# Altium integrated library flying_pcb_v1.2.IntLib: 22 symbols
Pins are listed as number, name and electrical type; pins without a type are passive.

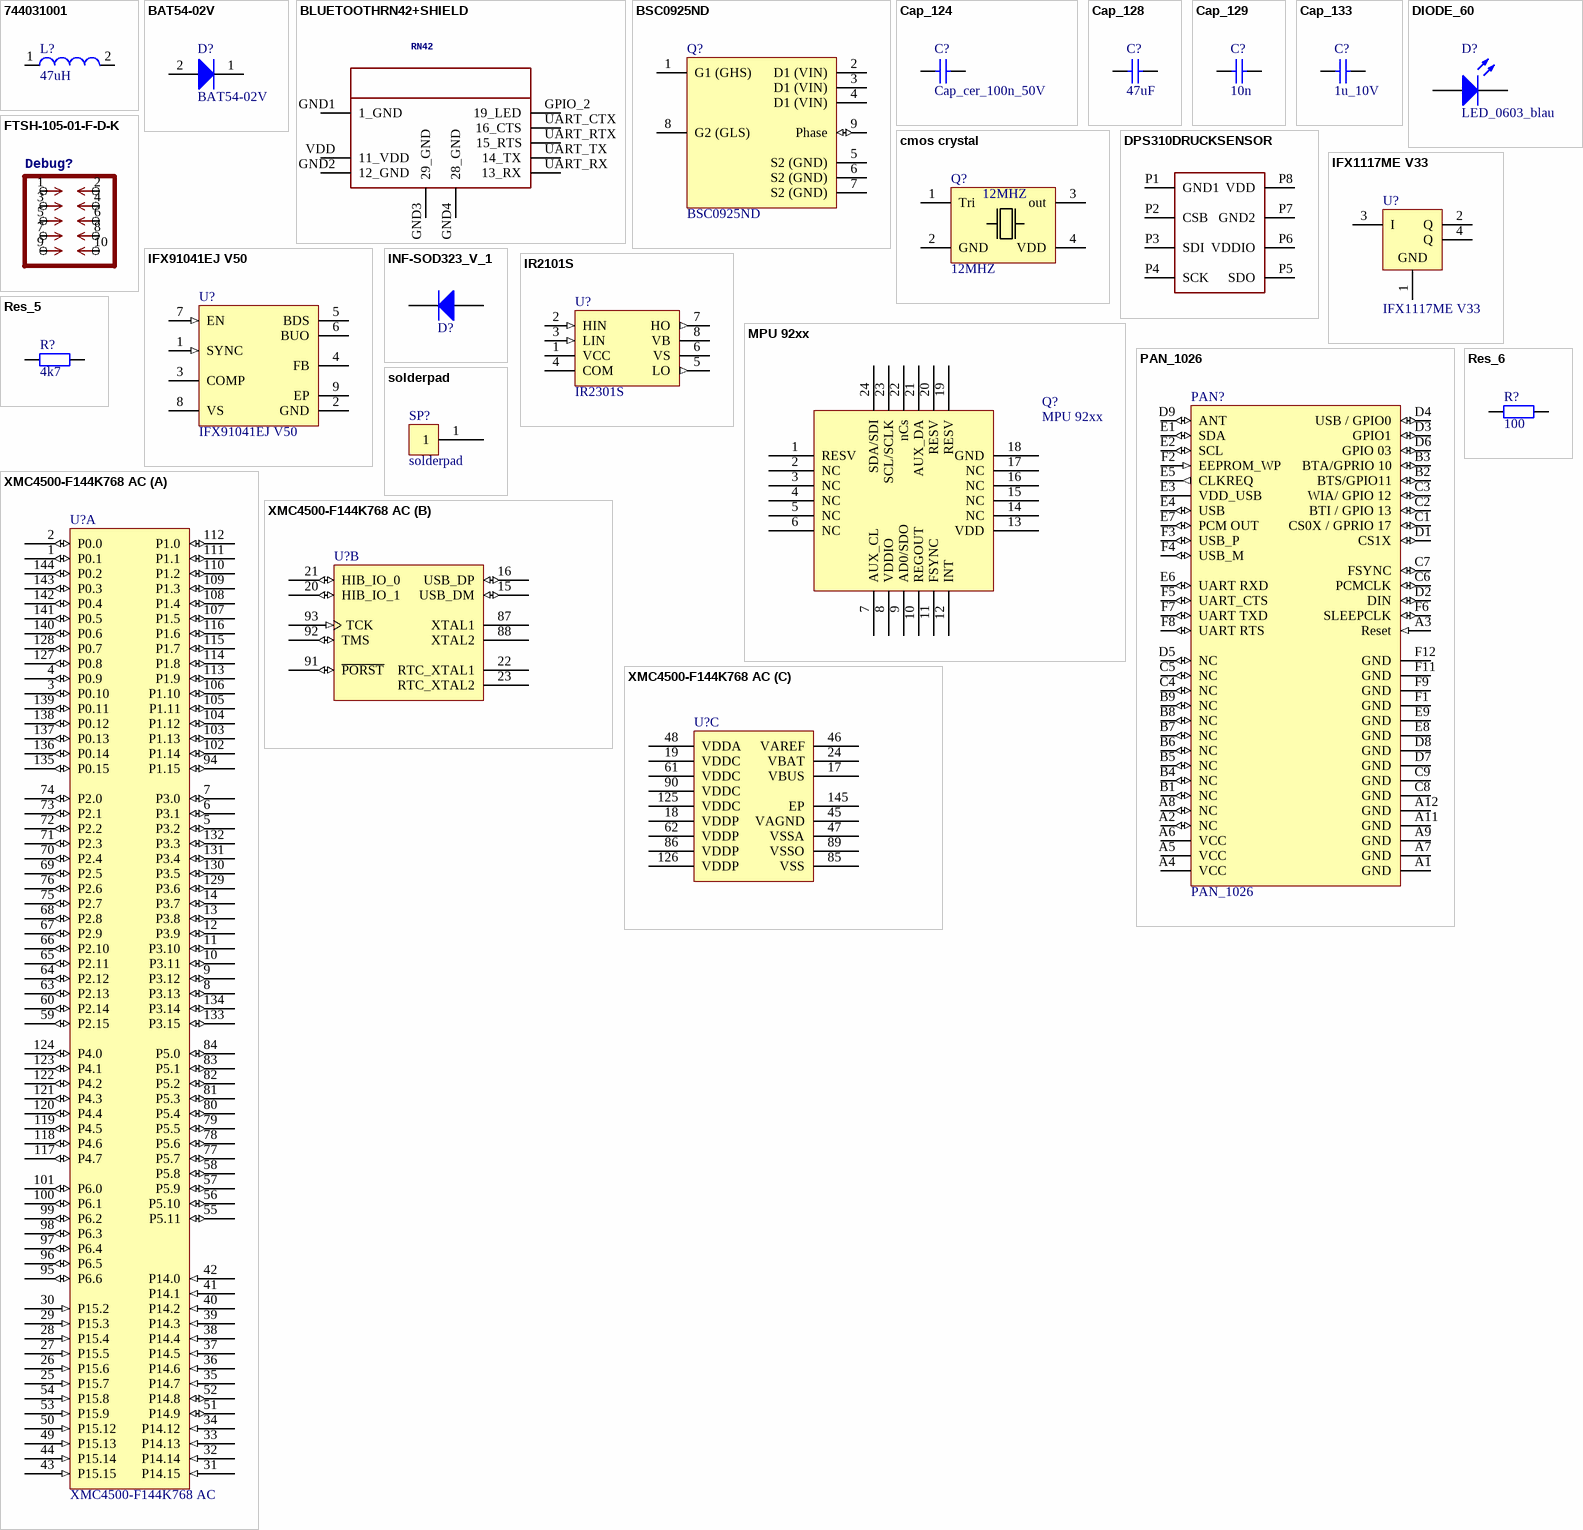
[diagram p0: symbols 744031001 to XMC4500-F144K768 AC]

## 744031001
designator L?, comment 47uH
SMD Shielded Tiny Power Inductor WE-TPC, L = 1.50 µH; PartNumber: 744031001; Inductance: 1.50 µH; DatasheetVersion: ver 6, Jan-2009; PackageReference: WE-TPC-3816-S; PackageDescription: SMD Inductor, 2-Leads, Body 3.8 x 3.8 mm; ComponentLink1Description: Manufacturer URL; ComponentLink1URL: http://www.we-online.com; ComponentLink2Description: Datasheet; ComponentLink2URL: http://www.we-online.de/katalog/media/pdf/744031001.pdf
footprint WE-TPC-3816-S (SMD Inductor, 2-Leads, Body 3.8x3.8x1.8 mm)
pins: 1, 2

## BAT54-02V
designator D?
Silicon Schottky Diode, SC79, Reel, Green; Manufacturer: Infineon; Green: TRUE; PackageReference: SC79; PackageDescription: 2-Pin Semiconductor Package, 0.8 x 1.2 mm Body; Supplier 1: Mouser; Supplier Part Number 1: N/A; Halogen-free: FALSE; Mounting Technology: Surface Mount; PartNumber: BAT54-02V; ComponentLink1Description: Manufacturer URL; ComponentLink1URL: http://www.infineon.com/; ComponentLink2Description: Datasheet; ComponentLink2URL: http://www.infineon.com/dgdl/bat54series.pdf?folderId=db3a30431400ef68011425f1ca2505e3&fileId=db3a304314dca3890115190b74210ea6; ComponentLink3Description: Package Specification; ComponentLink3URL: http://www.infineon.com/dgdl/SC79-Package_Overview.pdf?folderId=db3a30431936bc4b011951fbddb03b15&fileId=db3a30431936bc4b01195226fe583b41
footprint INF-SC79_V (SC79, 2-Leads, Body 1.2x0.8 mm)
pins: 1 K, 2 A

## BLUETOOTHRN42+SHIELD
designator RN?, comment >NAME: RN42  (hidden comment: n.m.)
footprint RN42+SHIELD
pins: GND1 1_GND, GND2 12_GND, GND3 29_GND, GND4 28_GND, GPIO_2 19_LED, UART_CTX 16_CTS, UART_RTX 15_RTS, UART_RX 13_RX, UART_TX 14_TX, VDD 11_VDD

## BSC0925ND
designator Q?
N-Channel OptiMOS Power-MOSFET, 30 V VDS, 40 A ID, -55 to 150 degC, PG-TISON-8, Reel, Green; Manufacturer: Infineon; Green: TRUE; ID (max): 40 A; IDpuls (max): 160 A; Polarity: N; Ptot (max): 30 W; QG: 6.7 nC; RDS (on) (max): 5 mOhm; RDS (on) (max) (@4.5V): 7 mOhm; Rth: 4.2 K/W; RthJA (max): 125 K/W; VDS (max): 30 V; VGS(th) (max): 2 V; VGS(th) (min): 1.2 V; DatasheetVersion: Rev. 1.0; PackageVersion: Rev. 01, 09/2011; PackageReference: PG-TISON-8; PackageDescription: 8-Pin Plastic (Green) Small Outline Non-Leaded Package, 5 x 6 mm Body, 1.27 mm Pitch; Halogen-free: TRUE; Packing: Reel; RthJC (max): 4.2 K/W; Mounting Technology: Surface Mount; PartNumber: BSC0925ND; ComponentLink1Description: Manufacturer URL; ComponentLink1URL: http://www.infineon.com/; ComponentLink2Description: Datasheet; ComponentLink2URL: http://www.infineon.com/dgdl/BSC0925ND_rev1+0.pdf?folderId=db3a304313b8b5a60113cee8763b02d7&fileId=db3a304336ca04c90136cec562a24914; ComponentLink3Description: Package Specification; ComponentLink3URL: http://www.infineon.com/dgdl/BSC0910NDI_Rev. 0.5.pdf?folderId=db3a304313b8b5a60113cee8763b02d7&fileId=db3a304336ca04c90136cedc08b64926
footprint INF-PG-TISON-8_V (TISON, 8-Leads, Body 6x5mm, Pitch 1.27mm, Thermal Pad 4x2.15mm)
pins: 1 G1 (GHS), 2 D1 (VIN), 3 D1 (VIN), 4 D1 (VIN), 5 S2 (GND), 6 S2 (GND), 7 S2 (GND), 8 G2 (GLS), 9 Phase (io)

## Cap_124
designator C?, comment Cap_cer_100n_50V
QR: 0; Capacity: 100n; Voltage: 50V; RS Bestellnummer: 788-2985; UID: Cap_124; Name: Cap_cer_100n_50V; ComponentLink1URL: #NAME?; mounting: SMD0603
footprint _0805
footprint 1608[0603] (Chip Capacitor, Body 1.6x0.8mm, IPC High Density)
pins: 1, 2

## Cap_128
designator C?, comment 47uF
Name: Cap_0805; QR: 0; UID: Cap_128; ComponentLink1URL: #NAME?; mounting: SMD
footprint _0805
pins: 1, 2

## Cap_129
designator C?, comment 10n
Name: Cap_0603; QR: 0; UID: Cap_129; ComponentLink1URL: #NAME?; mounting: SMD
footprint _0603
pins: 1, 2

## Cap_133
designator C?, comment 1u_10V
RS_number: 788-2884; QR: 0; Capacity: 1u; Voltage: 10V; UID: Cap_133; Name: 1u_10V; Name_Hyperlink: http://at.rs-online.com/web/p/keramik-multilayer-kondensatoren/7882884; ComponentLink1URL: #NAME?; mounting: SMD
footprint _0805
footprint 0603 (Chip Inductor, Body 0.6x0.3mm, IPC High Density)
footprint 1608[0603] (Chip Capacitor, Body 1.6x0.8mm, IPC High Density)
pins: 1, 2

## cmos crystal
designator Q?, comment 12MHZ
cmos smd crystal 3,3V; RS Bestellnummer: 703-2344; Spannung: 3.3V; Frequenz: 12MHZ; Typ: SMD
footprint cmos crystal (cmos smd crystal 3,3V)
pins: 1 Tri, 2 GND, 3 out, 4 VDD

## DIODE_60
designator D?, comment LED_0603_blau
Type: LED; Colour: blau; RS_number: 697-3610P; QR: 0; UID: DIODE_60; Name: LED_0603_blau; Name_Hyperlink: http://at.rs-online.com/web/p/products/6973610P/; ComponentLink1URL: #WERT!; mounting: SMD
footprint LED_0603
pins: 1, 2

## DPS310DRUCKSENSOR
designator DPS?, comment Infineon  (value not drawn)
footprint LGA8R125P0X4_500X300X120
pins: P1 GND1, P2 CSB, P3 SDI, P4 SCK, P5 SDO, P6 VDDIO, P7 GND2, P8 VDD

## FTSH-105-01-F-D-K
designator Debug?  (value not drawn)
footprint FTSH-105-01-F-D-K
pins: 1, 2, 3, 4, 5, 6, 7, 8, 9, 10

## IFX1117ME V33
designator U?
Voltage Regulator, 4.55 to 15 V Operating, 1000 mA, -40 to 125 degC, PG-SOT223 (SC-73), Reel, Green; Manufacturer: Infineon; Accuracy: 2.0 %; Automotive Qualified: FALSE; Dropout Voltage: 1200 mV; Green: TRUE; Max Number Reflow: 3; Max Peak Reflow Temp: 260 degC; Max. Output Current: 1000 mA; Output Voltage: 3.3 V; Regulator Type: Linear->single output; Typical Quiescent Current: 5000 uA; DatasheetVersion: Rev. 1.0; PackageVersion: Apr-08; PackageReference: PG-SOT223 (SC-73); PackageDescription: 4-Pin Small Outline Transistor Package, 6.5 x 3.5 mm Body, 2.3 mm Pitch; Supplier 1: Mouser; Supplier Part Number 1: 726-IFX1117MEV33; Supplier 2: Digi-Key; Supplier Part Number 2: IFX1117ME V33TR-ND; Supplier 3: Digi-Key; Supplier Part Number 3: IFX1117ME V33CT-ND; Supplier 4: Digi-Key; Supplier Part Number 4: IFX1117ME V33DKR-ND; MSL: 1; Packing: Reel; Reset: FALSE; Status Output: FALSE; Mounting Technology: Surface Mount; PartNumber: IFX1117ME V33; ComponentLink1Description: Manufacturer URL; ComponentLink1URL: http://www.infineon.com/; ComponentLink2Description: Datasheet; ComponentLink2URL: http://www.infineon.com/dgdl/IFX1117ME+V33.pdf?folderId=db3a304318f3fe290118f5a433570040&fileId=db3a30432e779412012e9097d1611987; ComponentLink3Description: Package Specification; ComponentLink3URL: http://www.infineon.com/dgdl/SOT223-Package_Overview.pdf?folderId=db3a30431936bc4b0119530470b03c3d&fileId=db3a30431936bc4b0119531d40b93c5c
footprint INF-PG-SOT223_SC-73_N (SOT223, 4-Leads, Body 6.5x3.5mm, Pitch 2.3mm, IPC Medium Density)
footprint INF-PG-SOT223_SC-73_L (SOT223, 4-Leads, Body 6.5x3.5mm, Pitch 2.3mm, IPC High Density)
footprint INF-PG-SOT223_SC-73_M (SOT223, 4-Leads, Body 6.5x3.5mm, Pitch 2.3mm, IPC Low Density)
pins: 1 GND (power), 2 Q (power) "Output", 3 I (power) "Input", 4 Q (power) "Output"

## IFX91041EJ V50
designator U?
1.8 A DC/DC Step-Down Voltage Regulator, -40 to 150 degC, PG-DSO-8-27, Reel, Green; Manufacturer: Infineon; Green: TRUE; IQ (max): 1,800 mA; Iq (typ): 7,000 uA; Max Number Reflow: 3; Max Peak Reflow Temp: 260 degreesC; Output: Buck Converter; Reset: FALSE; Tolerance: 2(4)%; VQ (max): 5 V; DatasheetVersion: Rev. 1.1; PackageVersion: V01, 06/2012; PackageReference: PG-DSO-8-27; PackageDescription: 8-Pin Plastic (Green) Dual Small Outline Package, 4.9 x 3.9 mm Body, 1.27 mm Pitch; Supplier 1: Mouser; Supplier Part Number 1: 726-IFX91041EJV50; Supplier 2: Newark; Supplier Part Number 2: 78X5181; Supplier 3: Farnell; Supplier Part Number 3: 2432504; Supplier 4: Digi-Key; Supplier Part Number 4: IFX91041EJ V50INTR-ND; Supplier 5: Digi-Key; Supplier Part Number 5: IFX91041EJ V50INCT-ND; Supplier 6: Digi-Key; Supplier Part Number 6: IFX91041EJ V50INDKR-ND; Halogen-free: TRUE; Inhibit: TRUE; MSL: 3; Packing: Reel; Protect: TRUE; Mounting Technology: Surface Mount; Code_JEDEC: MS-012; PartNumber: IFX91041EJ V50; ComponentLink1Description: Manufacturer URL; ComponentLink1URL: http://www.infineon.com/; ComponentLink2Description: Datasheet; ComponentLink2URL: http://www.infineon.com/dgdl/IFX91041_DS_11.pdf?folderId=db3a304314dca3890115039cf70d0bf0&fileId=db3a304320d39d59012153afb91a0548; ComponentLink3Description: Package Specification; ComponentLink3URL: http://www.infineon.com/dgdl/ILD4071_DS_V10_November2011.pdf?folderId=db3a30431f848401011fcbf2ab4c04c4&fileId=db3a30433784a04001380498fdf04c32
footprint INF-PG-DSO-8-27_N (SOP, 8-Leads, Body 4.9x3.9mm, Pitch 1.27mm, Thermal Pad 3.2x2.85mm, IPC Medium Density)
footprint INF-PG-DSO-8-27_L (SOP, 8-Leads, Body 4.9x3.9mm, Pitch 1.27mm, Thermal Pad 3.2x2.85mm, IPC High Density)
footprint INF-PG-DSO-8-27_M (SOP, 8-Leads, Body 4.9x3.9mm, Pitch 1.27mm, Thermal Pad 3.2x2.85mm, IPC Low Density)
pins: 1 SYNC (in) "Synchronization Input. Connect to an external clock signal in order to synchronize/adjust the switching frequency.  If not used connect to GND.", 2 GND (power) "Ground.", 3 COMP "Compensation Input. Frequency compensation for regulation loop stability.  Connect to compensation RC-network.", 4 FB "Feedback Input. For the adjustable output voltage versions (IFX91041EJV) connect via voltage divider to output  capacitor.  For the fixed voltage version (IFX91041EJV50, IFX91041EJV33) connect this pin directly to the  (See Datasheet)", 5 BDS (power) "Buck Driver Supply Input. Connect the bootstrap capacitor between this pin and pin BUO.", 6 BUO (power) "Buck Switch Output. Source of the integrated power-DMOS transistor. Connect directly to the cathode of the catch  diode and the buck circuit inductance.", 7 EN (in) "Enable Input. Active-high enable input with integrated pull down resistor.", 8 VS (power) "Supply Voltage Input. Connect to supply voltage source.", 9 EP (power) "Connect to heatsink area and GND by low inductance wiring."

## INF-SOD323_V_1
designator D?, comment BAS21-03W  (value not drawn)
footprint INF-SOD323_V_1PRIMARY
pins: 1, 2

## IR2101S
designator U?, comment IR2301S
High and Low Side Driver; Published: 8-Jun-2000; LatestRevisionDate: 13-Apr-2006; LatestRevisionNote: IPC-7351 Footprint Added.; DatasheetVersion: PD60043J; PackageVersion: Feb-2001; PackageReference: SO-8; Publisher: Altium Limited; PackageDescription: 8-Pin Plastic Small Outline Integrated Circuit 1.27 mm Pitch; Code_JEDEC: MS-012-AA; Code_IPC: SOIC127P600-8; ComponentLink1Description: Manufacturer Link; ComponentLink1URL: http://www.irf.com/
footprint SO-8_N (SOIC, 8-Leads, Body 4.9x3.9mm, Pitch 1.27mm, IPC Medium Density)
footprint SO-8_L (SOIC, 8-Leads, Body 4.9x3.9mm, Pitch 1.27mm, IPC High Density)
footprint SO-8_M (SOIC, 8-Leads, Body 4.9x3.9mm, Pitch 1.27mm, IPC Low Density)
3D model SO-8 (8-Pin Plastic Small Outline Integrated Circuit 1.27 mm Pitch)
pins: 1 VCC (power), 2 HIN (in), 3 LIN (in), 4 COM (power), 5 LO (out), 6 VS (power), 7 HO (out), 8 VB (power)

## MPU 92xx
designator Q?
footprint PQFN40P300X300X100_HS-25M (PQFN, 24-Leads, Body 3,00x3,00mm, Pitch 0,40mm, Thermal Pad 1,54x1,70mm, IPC Low Density)
pins: 1 RESV, 2 NC, 3 NC, 4 NC, 5 NC, 6 NC, 7 AUX_CL, 8 VDDIO, 9 AD0/SDO, 10 REGOUT, 11 FSYNC, 12 INT, 13 VDD, 14 NC, 15 NC, 16 NC, 17 NC, 18 GND, 19 RESV, 20 RESV, 21 AUX_DA, 22 nCs, 23 SCL/SCLK, 24 SDA/SDI

## PAN_1026
designator PAN?
footprint LGA49C120P12X6_1560X870X180 (LGA, 49-Leads, Body 15,60x8,70mmx1,80mm, Pitch 1,20mm)
pins: A1 GND (power) "I/O port ground", A2 NC (io), A3 Reset (in), A4 VCC (power) "I/O port supply", A5 VCC (power) "I/O port supply", A6 VCC (power) "Supply VDD, ADC reference voltage/ORC reference voltage. VDD has to be supplied with the same voltage as VDDP", A7 GND (power) "Supply GND, ADC reference GND", A8 NC (io), A9 GND (power) "Exposed Die Pad The exposed die pad is connected internally to VSSP.For proper operation, it is mandatory to connect the exposed pad to the board ground For thermal aspects, please refer to the Package and Reliability chapter.", A11 GND (power) "Exposed Die Pad The exposed die pad is connected internally to VSSP.For proper operation, it is mandatory to connect the exposed pad to the board ground For thermal aspects, please refer to the Package and Reliability chapter.", A12 GND (power) "Exposed Die Pad The exposed die pad is connected internally to VSSP.For proper operation, it is mandatory to connect the exposed pad to the board ground For thermal aspects, please refer to the Package and Reliability chapter.", B1 NC (io), B2 BTS/GPIO11 (io), B3 BTA/GPRIO 10 (io), B4 NC (io), B5 NC (io), B6 NC (io), B7 NC (io), B8 NC (io), B9 NC (io), C1 CS0X / GPRIO 17 (io), C2 BTI / GPIO 13 (io), C3 WIA/ GPIO 12 (io), C4 NC (io), C5 NC (io), C6 PCMCLK (io), C7 FSYNC (io), C8 GND (power) "Exposed Die Pad The exposed die pad is connected internally to VSSP.For proper operation, it is mandatory to connect the exposed pad to the board ground For thermal aspects, please refer to the Package and Reliability chapter.", C9 GND (power) "Exposed Die Pad The exposed die pad is connected internally to VSSP.For proper operation, it is mandatory to connect the exposed pad to the board ground For thermal aspects, please refer to the Package and Reliability chapter.", D1 CS1X (io), D2 DIN (io), D3 GPIO1 (io), D4 USB / GPIO0 (io), D5 NC (io), D6 GPIO 03 (io), D7 GND (power), D8 GND (power), D9 ANT (io), E1 SDA (io), E2 SCL (io), E3 VDD_USB (power), E4 USB (io), E5 CLKREQ (out), E6 UART RXD (io), E7 PCM OUT (io), E8 GND (power), E9 GND (power), F1 GND (power), F2 EEPROM_WP (in), F3 USB_P (io), F4 USB_M (io), F5 UART_CTS (io), F6 SLEEPCLK (io), F7 UART TXD (io), F8 UART RTS (io), F9 GND (power), F11 GND (power), F12 GND (power)

## Res_5
designator R?, comment 4k7
Name: Res_0603; UID: Res_5; ComponentLink1URL: #NAME?; mounting: SMD
footprint _0603
pins: 1, 2

## Res_6
designator R?, comment value 100  (hidden comment: Res_0603)
UID: Res_6; Name: Res_0603; ComponentLink1URL: #NAME?; mounting: SMD
footprint _0805
footprint 1608[0603] (Chip Capacitor, Body 1.6x0.8mm, IPC High Density)
pins: 1, 2

## solderpad
designator SP?
footprint solderpad1
pins: 1 "Solderpad"

## XMC4500-F144K768 AC
designator U?
120 MHz XMC4500 MCU with 768 KByte Program Memory, 160 KByte SRAM, 3.3 V, -40 to 125 degC, PG-LQFP-144, Tray, Green; Manufacturer: Infineon; A / D input lines (incl. FADC): 26; Digital I/O Lines: 91; Green: TRUE; I/O Operation Voltages: 3.3 V; Instruction set architecture: ARM(R) Cortex(TM)-M4 (32-bit); Max Clock Frequency: 120 MHz; Type of Memory: Flash; Type of Serial I/O Interfaces: UART,SPI,I2C,I2S,LIN,CAN,Ethernet 10/100,USB; DatasheetVersion: Rev. 1.3; PackageReference: PG-LQFP-144-18; PackageDescription: 144-Pin Plastic (Green) Low Profile Quad Flat Package, 20 x 20 mm Body, 0.5 mm Pitch; Group: XMC4500; Halogen-free: TRUE; Packing: Tray; Program Memory: 768 KByte; SRAM (incl. Cache): 160 KByte; Mounting Technology: Surface Mount; PartNumber: XMC4500-F144K768 AC; ComponentLink1Description: Manufacturer URL; ComponentLink1URL: http://www.infineon.com/; ComponentLink2Description: Datasheet; ComponentLink2URL: http://www.infineon.com/dgdl/xmc4500_ds_v1.3_2014_03.pdf?folderId=db3a30433580b3710135a47f3eb76c98&fileId=db3a304335b504400135bdca7ed86742; ComponentLink3Description: Package Specification; ComponentLink3URL: http://www.infineon.com/cms/packages/SMD_-_Surface_Mounted_Devices/P-PG-LQFP/P-PG-LQFP-144-04x_13x_14x_15x_16x_18x_23.html?__locale=en
footprint INF-PG-LQFP-144-18-6500X6500TP_N (QFP, 144-Leads, Body 20x20mm, Pitch 0.5mm, Thermal Pad 6.5x6.5mm, IPC Medium Density)
footprint INF-PG-LQFP-144-18-6500X6500TP_L (QFP, 144-Leads, Body 20x20mm, Pitch 0.5mm, Thermal Pad 6.5x6.5mm, IPC High Density)
footprint INF-PG-LQFP-144-18-6500X6500TP_M (QFP, 144-Leads, Body 20x20mm, Pitch 0.5mm, Thermal Pad 6.5x6.5mm, IPC Low Density)
part A pins: 1 P0.1 (io), 2 P0.0 (io), 3 P0.10 (io), 4 P0.9 (io), 5 P3.2 (io), 6 P3.1 (io), 7 P3.0 (io), 8 P3.13 (io), 9 P3.12 (io), 10 P3.11 (io), 11 P3.10 (io), 12 P3.9 (io), 13 P3.8 (io), 14 P3.7 (io), 25 P15.7 (in), 26 P15.6 (in), 27 P15.5 (in), 28 P15.4 (in), 29 P15.3 (in), 30 P15.2 (in), 31 P14.15 (in), 32 P14.14 (in), 33 P14.13 (in), 34 P14.12 (in), 35 P14.7 (in), 36 P14.6 (in), 37 P14.5 (in), 38 P14.4 (in), 39 P14.3 (in), 40 P14.2 (in), 41 P14.1 (in), 42 P14.0 (in), 43 P15.15 (in), 44 P15.14 (in), 49 P15.13 (in), 50 P15.12 (in), 51 P14.9 (io), 52 P14.8 (io), 53 P15.9 (in), 54 P15.8 (in), 55 P5.11 (io), 56 P5.10 (io), 57 P5.9 (io), 58 P5.8 (io), 59 P2.15 (io), 60 P2.14 (io), 63 P2.13 (io), 64 P2.12 (io), 65 P2.11 (io), 66 P2.10 (io), 67 P2.9 (io), 68 P2.8 (io), 69 P2.5 (io), 70 P2.4 (io), 71 P2.3 (io), 72 P2.2 (io), 73 P2.1 (io), 74 P2.0 (io), 75 P2.7 (io), 76 P2.6 (io), 77 P5.7 (io), 78 P5.6 (io), 79 P5.5 (io), 80 P5.4 (io), 81 P5.3 (io), 82 P5.2 (io), 83 P5.1 (io), 84 P5.0 (io), 94 P1.15 (io), 95 P6.6 (io), 96 P6.5 (io), 97 P6.4 (io), 98 P6.3 (io), 99 P6.2 (io), 100 P6.1 (io), 101 P6.0 (io), 102 P1.14 (io), 103 P1.13 (io), 104 P1.12 (io), 105 P1.11 (io), 106 P1.10 (io), 107 P1.5 (io), 108 P1.4 (io), 109 P1.3 (io), 110 P1.2 (io), 111 P1.1 (io), 112 P1.0 (io), 113 P1.9 (io), 114 P1.8 (io), 115 P1.7 (io), 116 P1.6 (io), 117 P4.7 (io), 118 P4.6 (io), 119 P4.5 (io), 120 P4.4 (io), 121 P4.3 (io), 122 P4.2 (io), 123 P4.1 (io), 124 P4.0 (io), 127 P0.8 (io), 128 P0.7 (io), 129 P3.6 (io), 130 P3.5 (io), 131 P3.4 (io), 132 P3.3 (io), 133 P3.15 (io), 134 P3.14 (io), 135 P0.15 (io), 136 P0.14 (io), 137 P0.13 (io), 138 P0.12 (io), 139 P0.11 (io), 140 P0.6 (io), 141 P0.5 (io), 142 P0.4 (io), 143 P0.3 (io), 144 P0.2 (io)
part B pins: 15 USB_DM (io), 16 USB_DP (io), 20 HIB_IO_1 (io), 21 HIB_IO_0 (io), 22 RTC_XTAL1, 23 RTC_XTAL2, 87 XTAL1, 88 XTAL2, 91 ~{PORST} (io), 92 TMS (io), 93 TCK (in)
part C pins: 17 VBUS (power), 18 VDDP (power), 19 VDDC (power), 24 VBAT (power), 45 VAGND (power), 46 VAREF (power), 47 VSSA (power), 48 VDDA (power), 61 VDDC (power), 62 VDDP (power), 85 VSS (power), 86 VDDP (power), 89 VSSO (power), 90 VDDC (power), 125 VDDC (power), 126 VDDP (power), 145 EP (power)